# Altium footprint library PCB - CONNECTOR - SAMTEC IPL1-110-02-L-D-K.PCBLIB: 1 footprints
Each footprint in its own frame and in the unit in brackets; x right, y up, seen from the top. Pads: shape width x height; smd on the part's side, far side on the other; paste and mask are expansions set on the pad; w line width, h text height; cw(c..) or ccw(c..) is an arc to the next point about the centre after c.
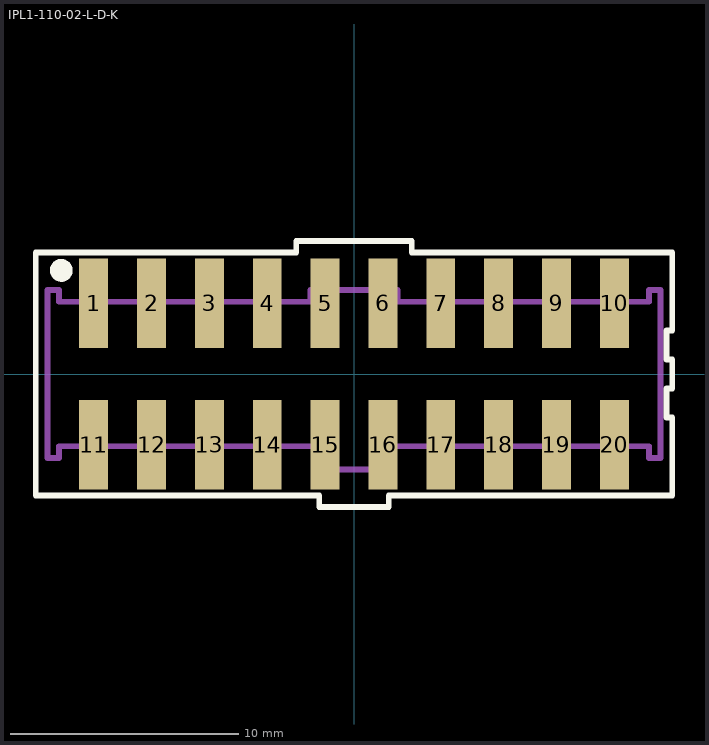
[diagram p0: the footprint, top view; thin cyan lines are the x and y axes]

## IPL1-110-02-L-D-K [mil]
pads (20):
  rect 50x155 smd mask+2: 1(-450,122.5) 2(-350,122.5) 3(-250,122.5) 4(-150,122.5) 5(-50,122.5) 6(50,122.5) 7(150,122.5) 8(250,122.5) 9(350,122.5) 10(450,122.5) 11(-450,-122.5) 12(-350,-122.5) 13(-250,-122.5) 14(-150,-122.5) 15(-50,-122.5) 16(50,-122.5) 17(150,-122.5) 18(250,-122.5) 19(350,-122.5) 20(450,-122.5)
Top Overlay:
  circle w19.68: c-505.91,179.13 r9.84
  lines w10: -550,-210 -550,210 -100,210 -100,230 100,230 100,210 550,210 550,75 540,75 540,25 550,25 550,-25 540,-25 540,-75 550,-75 550,-210 60,-210 60,-230 -60,-230 -60,-210 -550,-210
M5 Assembly Top:
  lines w10: -530,-145 -530,145 -510,145 -510,125 -75,125 -75,145 75,145 75,125 510,125 510,145 530,145 530,-145 510,-145 510,-125 50,-125 50,-165 -50,-165 -50,-125 -510,-125 -510,-145 -530,-145
  text ".Designator" at -59.06,-43.31 h60
3D body "IPL1-110-02-F-D-K.stp": height 345, standoff 0, extent -530,-188.49 530,188.51